# Altium footprint library PCB封装.PcbLib: 150 footprints (part 8 of 10)
Each footprint in its own frame and in the unit in brackets; x right, y up, seen from the top. Pads: shape width x height; smd on the part's side, far side on the other; paste and mask are expansions set on the pad; w line width, h text height; cw(c..) or ccw(c..) is an arc to the next point about the centre after c.
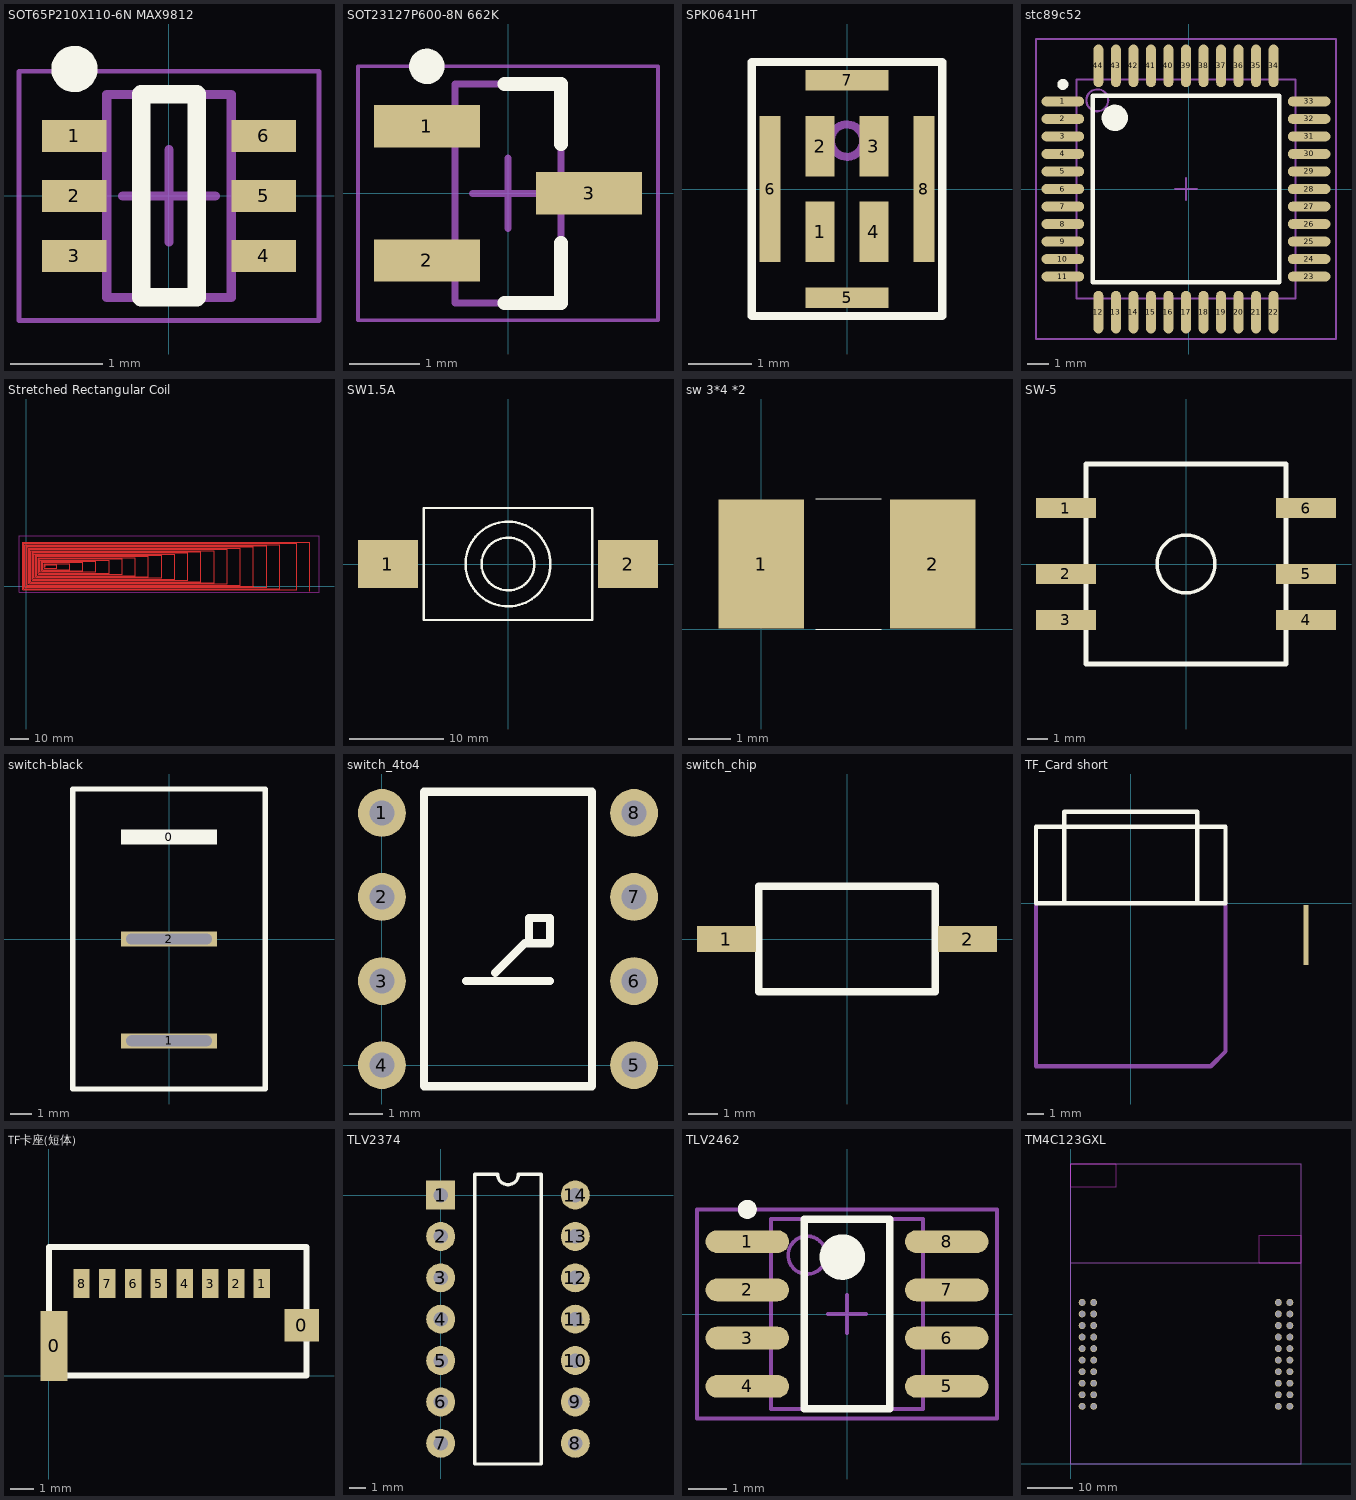
[diagram p7: the footprints below, top view; thin cyan lines are the x and y axes]

## SOT65P210X110-6N MAX9812 [mm] "SOT23, 6-Leads, Body 2.00x2.10mm, Pitch 0.65mm, IPC Medium Density"
height 1.1
pads (6):
  rect 0.7x0.35 smd: 1(-1.025,0.65) 2(-1.025,0) 3(-1.025,-0.65) 4(1.025,-0.65) 5(1.025,0) 6(1.025,0.65)
Top Overlay:
  circle w0.25: c-1.025,1.375 r0.125
  lines w0.2: -0.3,-1.1 -0.3,1.1 0.3,1.1 0.3,-1.1 -0.3,-1.1
Mechanical 13:
  lines w0.1: -0.675,-1.1 0.675,-1.1 0.675,1.1 -0.675,1.1 -0.675,-1.1
Mechanical 15:
  lines w0.05: -1.625,-1.35 1.625,-1.35 1.625,1.35 -1.625,1.35 -1.625,-1.35
  lines w0.1: -0.5,0 0.5,0 ; 0,-0.5 0,0.5
3D body: height 1.1, standoff 0.1, extent -0.675,-1.1 0.675,1.1

## SOT23127P600-8N 662K [mm]
height 1.3
pads (3):
  rect 1.5x0.6 smd: 1(-1.15,0.95) 2(-1.15,-0.95) 3(1.15,0)
Top Overlay:
  circle w0.25: c-1.15,1.8 r0.125
  lines w0.2: -0.05,-1.55 0.75,-1.55 0.75,-0.7 ; -0.05,1.55 0.75,1.55 0.75,0.7
Mechanical 13:
  lines w0.1: -0.75,-1.55 -0.75,1.55 0.75,1.55 0.75,-1.55 -0.75,-1.55
Mechanical 15:
  lines w0.05: -2.125,-1.8 -2.125,1.8 2.125,1.8 2.125,-1.8 -2.125,-1.8
  lines w0.1: -0.5,0 0.5,0 ; 0,-0.5 0,0.5
3D body: height 1.3, standoff 0.1, extent -0.75,-1.55 0.75,1.55

## SPK0641HT [mm] "1"
pads (8):
  rect 0.45x0.95 smd: 1(-0.425,-0.675) 2(-0.425,0.675) 3(0.425,0.675) 4(0.425,-0.675)
  rect 1.3x0.325 smd: 5(0,-1.713) 7(0,1.713)
  rect 0.325x2.3 smd: 6(-1.212,0) 8(1.212,0)
Top Overlay:
  lines w0.127: -1.5,-2 -1.5,2 1.5,2 1.5,-2 -1.5,-2
Mechanical 15:
  circle w0.127: c0,0.762 r0.255

## stc89c52 [mm]
pads (44):
  oval 1.95x0.45 smd: 1(-5.752,4) 2(-5.752,3.2) 3(-5.752,2.4) 4(-5.752,1.6) 5(-5.752,0.8) 6(-5.752,0) 7(-5.752,-0.8) 8(-5.752,-1.6) 9(-5.752,-2.4) 10(-5.752,-3.2) 11(-5.752,-4) 23(5.498,-4) 24(5.498,-3.2) 25(5.498,-2.4) 26(5.498,-1.6) 27(5.498,-0.8) 28(5.498,0) 29(5.498,0.8) 30(5.498,1.6) 31(5.498,2.4) 32(5.498,3.2) 33(5.498,4)
  oval 0.45x1.95 smd: 12(-4.127,-5.625) 13(-3.327,-5.625) 14(-2.527,-5.625) 15(-1.727,-5.625) 16(-0.927,-5.625) 17(-0.127,-5.625) 18(0.673,-5.625) 19(1.473,-5.625) 20(2.273,-5.625) 21(3.073,-5.625) 22(3.873,-5.625) 34(3.873,5.625) 35(3.073,5.625) 36(2.273,5.625) 37(1.473,5.625) 38(0.673,5.625) 39(-0.127,5.625) 40(-0.927,5.625) 41(-1.727,5.625) 42(-2.527,5.625) 43(-3.327,5.625) 44(-4.127,5.625)
Top Overlay:
  circle w0.25: c-5.752,4.775 r0.125
  circle w0.6: c-3.377,3.25 r0.3
  lines w0.2: -4.377,-4.25 -4.377,4.25 4.123,4.25 4.123,-4.25 -4.377,-4.25
Mechanical 13:
  circle w0.1: c-4.177,4.05 r0.5
  lines w0.1: -5.127,-5 -5.127,5 4.873,5 4.873,-5 -5.127,-5
Mechanical 15:
  lines w0.1: -0.627,0 0.373,0 ; -0.127,-0.5 -0.127,0.5 ; -6.977,-6.85 -6.977,6.85 6.723,6.85 6.723,-6.85 -6.977,-6.85
3D body: height 1.6, standoff 0.1, extent -5.127,-5 4.873,5

## Stretched Rectangular Coil [mm]
height 1.6
Top Layer:
  lines w0.381: 10.033,10.16 10.033,11.43 16.063,11.43 16.063,9.525 9.398,9.525 9.398,12.065 23.063,12.065 23.063,8.89 8.763,8.89 8.763,12.7 30.063,12.7 30.063,8.255 8.128,8.255 8.128,13.335 37.063,13.335 37.063,7.62 7.493,7.62 7.493,13.97 44.063,13.97 44.063,6.985 6.858,6.985 6.858,14.605 51.054,14.605 51.054,6.35 6.223,6.35 6.223,15.24 58.063,15.24 58.063,5.715 5.588,5.715 5.588,15.875 65.063,15.875 65.063,5.08 4.953,5.08 4.953,16.51 72.063,16.51 72.063,4.445 4.318,4.445 4.318,17.145 79.063,17.145 79.063,3.81 3.683,3.81 3.683,17.78 86.063,17.78 86.063,3.175 3.048,3.175 3.048,18.415 93.063,18.415 93.063,2.54 2.413,2.54 2.413,19.05 100.063,19.05 100.063,1.905 1.778,1.905 1.778,19.685 107.061,19.685 107.061,1.27 1.143,1.27 1.143,20.32 114.063,20.32 114.063,0.635 0.508,0.635 0.508,20.955 121.063,20.955 121.063,0 -0.127,0 -0.127,21.59 128.063,21.59 128.063,-0.635 -0.762,-0.635 -0.762,22.225 135.063,22.225 135.063,-1.27 -1.397,-1.27 -1.397,22.86 144.063,22.86 144.063,-1.905 -2.032,-1.905 -2.032,23.495 151.063,23.495 151.063,-2.667
Keep-Out Layer:
  lines w0.381: -3.937,26.825 -3.937,-3.175 156.063,-3.175 156.063,26.924 -3.937,26.924

## SW1.5A [mm]
height 8
pads (2):
  rect 6.35x5.08 smd: 1(-12.75,0) 2(12.75,0)
Top Overlay:
  circle w0.254: c0,0 r2.8
  circle w0.254: c0,0 r4.5
  lines w0.254: -8.95,-5.95 8.95,-5.95 8.95,5.95 -8.95,5.95 -8.95,-5.95

## sw 3*4 *2 [mm]
height 2
pads (2):
  rect 2x3 smd: 1(0,1.524) 2(4,1.524)
Top Overlay:
  lines w0.025: 1.27,0 2.794,0 ; 1.27,3.048 2.794,3.048

## SW-5 [mm]
height 8
pads (6):
  rect 3x1 smd: 1(-6,2.8) 2(-6,-0.5) 3(-6,-2.8) 4(6,-2.8) 5(6,-0.5) 6(6,2.8)
Top Overlay:
  circle w0.178: c0,0 r1.448
  lines w0.254: -5,-5 5,-5 5,5 -5,5 -5,-5

## switch-black [mm]
height 20
pads (3):
  rect 4.5x0.7 on Top Overlay: 0(0,4.75)
  rect 4.5x0.7 hole 0.5 slot 4 at 0 deg: 1(0,-4.75) 2(0,0)
Top Overlay:
  lines w0.254: -4.5,-7 4.5,-7 4.5,7 -4.5,7 -4.5,-7

## switch_4to4 [mil]
height 200
pads (8):
  round 57 hole 30: 1(0,300) 2(0,200) 3(0,100) 4(0,0) 5(300,0) 6(300,100) 7(300,200) 8(300,300)
Top Overlay:
  lines w10: 100,100 200,100 ; 135,110 170,145 175,145 ; 175,145 175,175 200,175 200,145 175,145 ; 50,-25 50,325 250,325 250,-25 50,-25

## switch_chip [mm]
height 5
pads (2):
  rect 2x0.9 smd: 1(-4.1,0) 2(4.1,0)
Top Overlay:
  lines w0.254: -3,-1.8 -3,1.8 3,1.8 3,-1.8 -3,-1.8

## TF_Card short [mm]
pads (1):
  rect 0.3x3.6 smd: 0(10.541,-1.905)
Top Overlay:
  lines w0.254: -4,0 -4,5.5 4,5.5 4,0.064 ; -5.7,0 -5.7,4.6 5.7,4.6 5.7,0 -5.7,0
Mechanical 3:
  lines w0.254: -5.7,0 -5.7,-9.8 4.805,-9.8 5.7,-8.905 5.7,0

## TF卡座(短体) [mm]
height 3.6
pads (10):
  rect 1.15x3 smd: 0(0.227,1.27)
  rect 1.48x1.4 smd: 0(10.795,2.159)
  rect 0.7x1.25 smd: 1(9.097,3.937) 2(7.997,3.937) 3(6.897,3.937) 4(5.797,3.937) 5(4.697,3.937) 6(3.597,3.937) 7(2.497,3.937) 8(1.397,3.937)
Top Overlay:
  lines w0.254: 0,0 0,5.5 11,5.5 11,0 0,0

## TLV2374 [mil]
pads (14):
  rect 70x70 hole 35: 1(0,0)
  round 70 hole 35: 2(0,-100) 3(0,-200) 4(0,-300) 5(0,-400) 6(0,-500) 7(0,-600) 8(325.2,-600) 9(325.2,-500) 10(325.2,-400) 11(325.2,-300) 12(325.2,-200) 13(325.2,-100) 14(325.2,0)
Top Overlay:
  lines w7.87: 82.09,-650 82.09,50 137.6,50 ccw(c162.6,50) 187.6,50 243.11,50 243.11,-650 82.09,-650

## TLV2462 [mm]
pads (8):
  oval 2.2x0.6 smd: 1(-2.625,1.905) 2(-2.625,0.635) 3(-2.625,-0.635) 4(-2.625,-1.905) 5(2.625,-1.905) 6(2.625,-0.635) 7(2.625,0.635) 8(2.625,1.905)
Top Overlay:
  circle w0.25: c-2.625,2.755 r0.125
  circle w0.6: c-0.125,1.5 r0.3
  lines w0.2: -1.125,-2.5 -1.125,2.5 1.125,2.5 1.125,-2.5 -1.125,-2.5
Mechanical 13:
  circle w0.1: c-1.05,1.55 r0.5
  lines w0.1: -2,-2.5 -2,2.5 2,2.5 2,-2.5 -2,-2.5
Mechanical 15:
  lines w0.1: -0.5,0 0.5,0 ; 0,-0.5 0,0.5 ; -3.95,-2.75 -3.95,2.75 3.95,2.75 3.95,-2.75 -3.95,-2.75
3D body: height 1.75, standoff 0.25, extent -2,-2.5 2,2.5

## TM4C123GXL [mil]
pads (40):
  round 60 hole 50: 1(100,1400) 2(100,1300) 3(100,1200) 4(100,1100) 5(100,1000) 6(100,900) 7(100,800) 8(100,700) 9(100,600) 10(100,500) 11(1900,1400) 12(1900,1300) 13(1900,1200) 14(1900,1100) 15(1900,1000) 16(1900,900) 17(1900,800) 18(1900,700) 19(1900,600) 20(1900,500) 21(200,1400) 22(200,1300) 23(200,1200) 24(200,1100) 25(200,1000) 26(200,900) 27(200,800) 28(200,700) 29(200,600) 30(200,500) 31(1800,1400) 32(1800,1300) 33(1800,1200) 34(1800,1100) 35(1800,1000) 36(1800,900) 37(1800,800) 38(1800,700) 39(1800,600) 40(1800,500)
Keep-Out Layer:
  lines w10: 392.4,2600 0,2600 0,2403.15 393.7,2403.15 393.7,2598.7 ; 1998.78,1746.22 1998.78,1981.22 1633.86,1981.22 1633.86,1745 2000,1745
Mechanical 15:
  lines w10: 0,1745 2000,1745 ; 0,0 0,2600 2000,2600 2000,0 0,0